# EAGLE library part MMA8652FC (library talons)
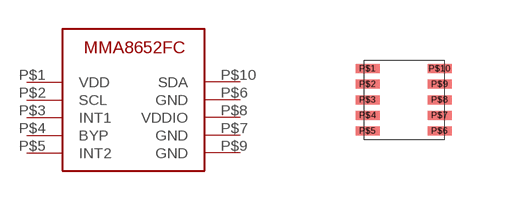
[diagram p4: symbol with the pads of MMA8652FC; footprint MMA8652FC]

Designator prefix -

## MMA8652FC  [MMA8652FC]
P$1  VDD  pwr
P$2  SCL
P$3  INT1  out
P$4  BYP  out
P$5  INT2  out
P$6  GND  pwr
P$7  GND  pwr
P$8  VDDIO  pwr
P$9  GND  pwr
P$10  SDA

## Footprint MMA8652FC (pad centres in mm)
smd 0.6 x 0.225: P$1 0.362,1.755; P$2 0.362,1.365; P$3 0.362,0.975; P$4 0.362,0.585; P$5 0.362,0.195; P$6 2.163,0.195; P$7 2.163,0.585; P$8 2.163,0.975; P$9 2.163,1.365; P$10 2.163,1.755